# Altium schematic symbol library lib.SchLib: 136 symbols (part 2 of 2)
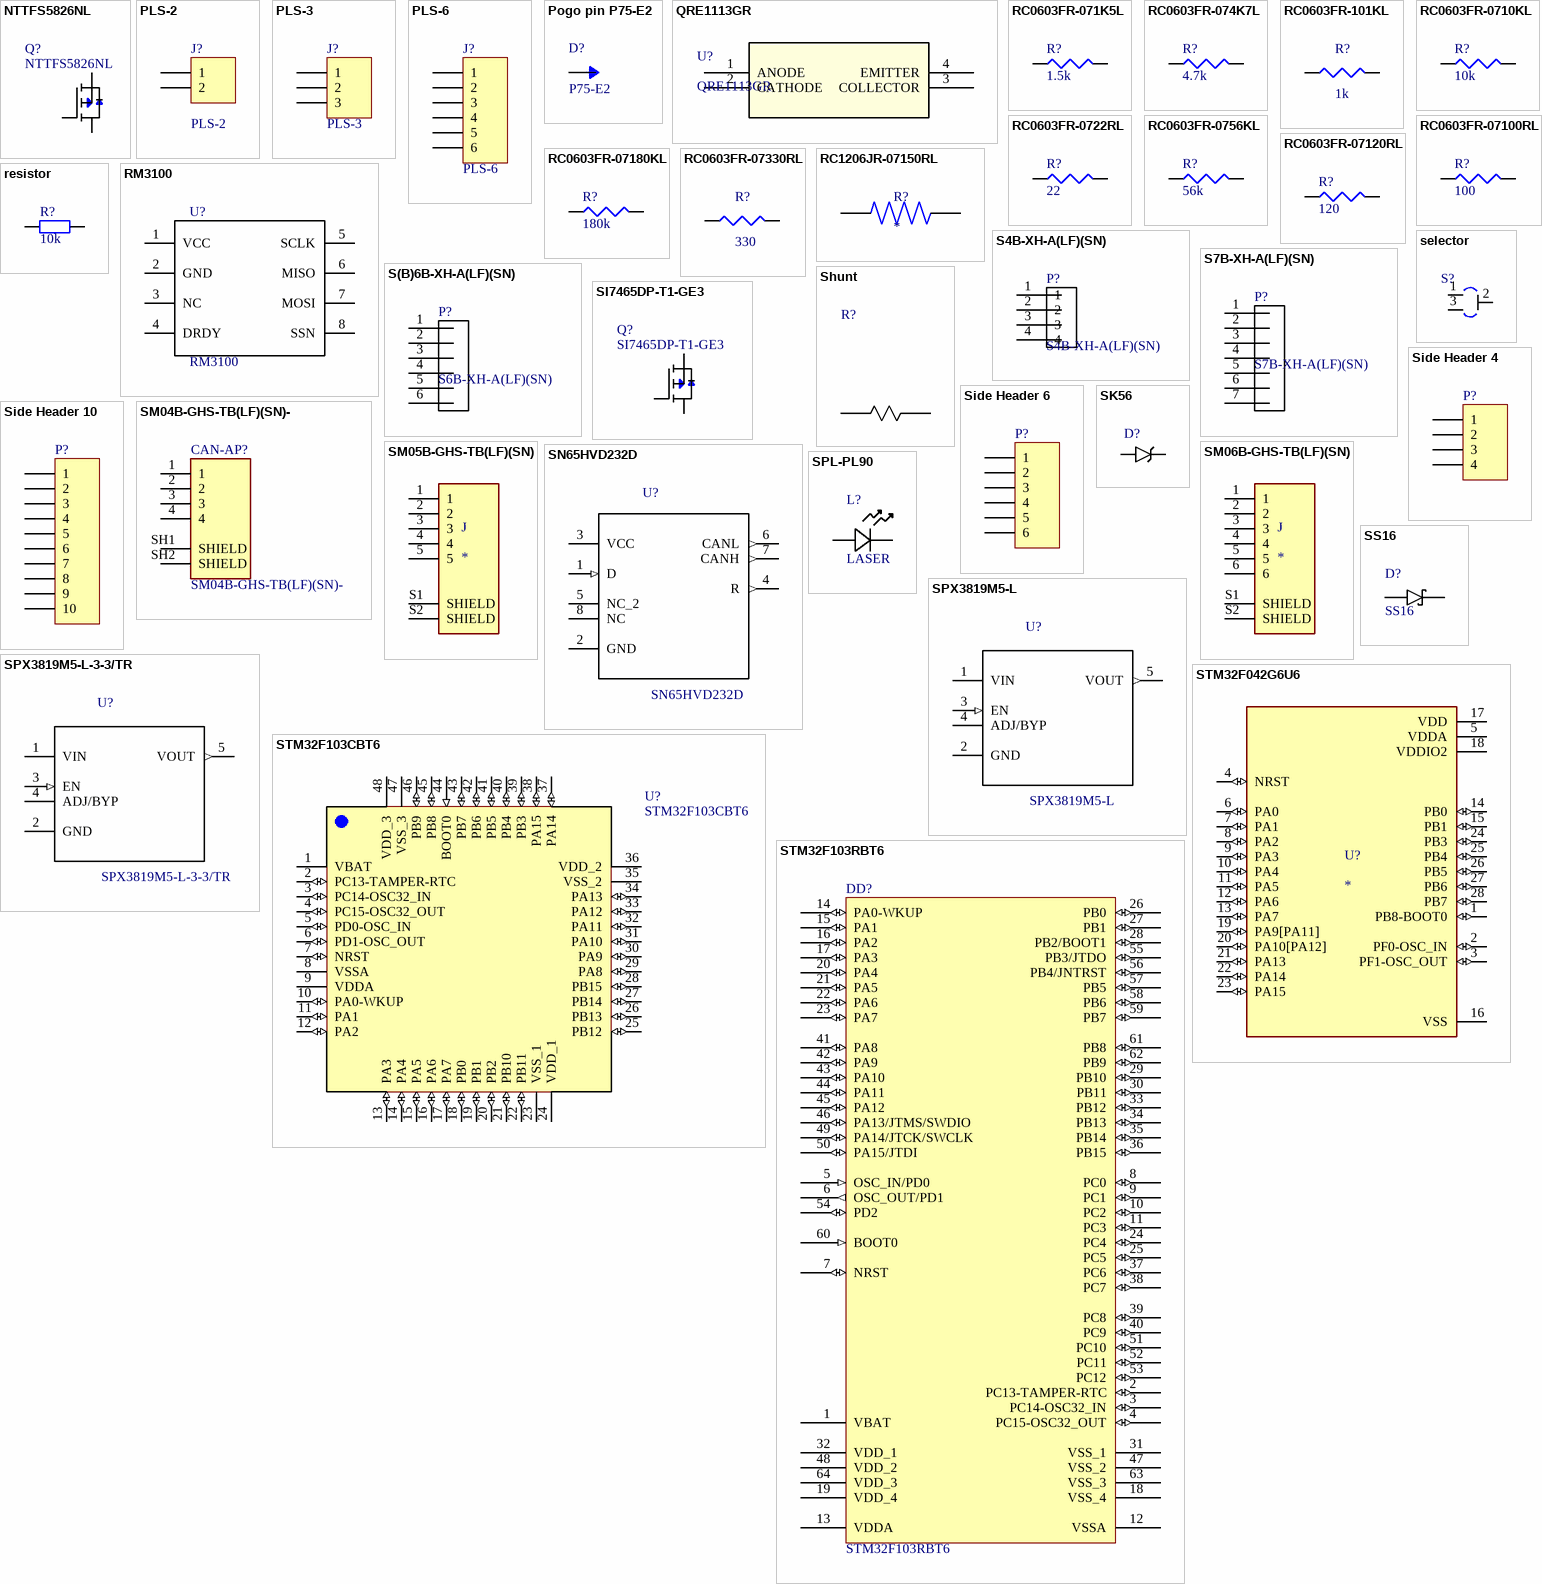
[diagram p5: symbols NTTFS5826NL to STM32F103RBT6]

## SM06B-GHS-TB(LF)(SN)
designator J
Connector Header Surface Mount, Right Angle 6 position 0.049" (1.25mm); MP: SM06B-GHS-TB_LF__SN_; MF: JST Sales; Value: *; Package: None; Price: None; Availability: Unavailable; SnapEDA_Link: https://www.snapeda.com/parts/SM06B-GHS-TB%28LF%29%28SN%29/JST%20Sales%20America%20Inc./view-part/817690/?ref=snap; HelpURL: http://www.farnell.com/datasheets/2082975.pdf; System: Connector; ChipDip_Link: https://www.chipdip.ru/product1/8002005407
footprint JST_SM06B-GHS-TB(LF)(SN)
pins: 1, 2, 3, 4, 5, 6, S1 SHIELD, S2 SHIELD

## SN65HVD232D
designator U?
Integrated circuit: interface; CAN transceiver; Channels: 1; SO8; MF: Texas Instruments; Availability: Unavailable; Package: SOIC-8 Texas Instruments; Price: None; SnapEDA_Link: https://www.snapeda.com/parts/SN65HVD232D/Texas%20Instruments/view-part/?ref=snap; MP: SN65HVD232D; Value: *
footprint *SOIC127P600X175-8N
pins: 1 D (in), 2 GND, 3 VCC (power), 4 R (out), 5 NC_2, 6 CANL (out), 7 CANH (out), 8 NC

## SPL-PL90
designator L?, comment LASER
5mm Laser beam transmitter; Designer: EhsanShaghaei; ChipDip_Link: https://www.chipdip.ru/product0/8001775090
footprint SPL-PL90
pins: 1, 2

## SPX3819M5-L
designator U?
Low Dropout Voltage Regulator, Adjustable 0.5A, В±1%, 2.5 to 16 Vin, 5-Pin SOT-23; MF: MaxLinear, Inc.; MP: SPX3819M5-L; Price: None; Availability: Unavailable; Package: SOT-23-5 Exar; SnapEDA_Link: https://www.snapeda.com/parts/SPX3819M5-L/MaxLinear%2C%20Inc./view-part/?ref=snap; Value: *
footprint *SOT95P280X145-5N
pins: 1 VIN (power), 2 GND, 3 EN (in), 4 ADJ/BYP, 5 VOUT (out)

## SPX3819M5-L-3-3/TR
designator U?
Low Dropout Voltage Regulator, Adjustable 0.5A, В±1%, 2.5 to 16 Vin, 5-Pin SOT-23; MF: MaxLinear, Inc.; Value: 3V3; MP: SPX3819M5-L-3-3/TR; Package: SOT-23-5 Exar; SnapEDA_Link: https://www.snapeda.com/parts/SPX3819M5-L/MaxLinear%2C%20Inc./view-part/?ref=snap; Type: SMD; ChipDip_Link: https://www.chipdip.ru/product1/8003455237; HelpURL: http://www.farnell.com/datasheets/2614478.pdf
footprint *SOT95P280X145-5N
pins: 1 VIN (power), 2 GND, 3 EN (in), 4 ADJ/BYP, 5 VOUT (out)

## SS16
designator D?
Diode Schottky 60V 1A Surface Mount SMA; Type: SMD; SnapEDA_Link: https://www.snapeda.com/parts/SS16/ON%20Semiconductor/view-part/?ref=search&t=ss16; Value: *; ChipDip_Link: https://www.chipdip.ru/product/ss16; MP: SS16; Package: SMA-2
footprint *DIOM5227X250N_SS16(Primary)
pins: A, C K

## STM32F042G6U6
designator U?
ARMÂ® CortexÂ®-M0 STM32F0 Microcontroller IC 32-Bit 48MHz 32KB _32K x 8_ FLASH 28-UFQFPN _4x4_; MP: STM32F042G6U6; MF: STMicroelectronics; designer: Ehsan Shaghaei; Package: UFQFN-28 STMicroelectronics; Availability: Unavailable; SnapEDA_Link: https://www.snapeda.com/parts/STM32F042G6U6/STMicroelectronics/view-part/225452/?ref=snap; Price: None; Value: *; datasheet: https://static.chipdip.ru/lib/914/DOC005914773.pdf; chipdip_link: https://www.chipdip.ru/product/stm32f042g6u6
footprint STM32F042G6U6_UFQFPN4x4
pins: 1 PB8-BOOT0 (io), 2 PF0-OSC_IN (io), 3 PF1-OSC_OUT (io), 4 NRST (io), 5 VDDA (power), 6 PA0 (io), 7 PA1 (io), 8 PA2 (io), 9 PA3 (io), 10 PA4 (io), 11 PA5 (io), 12 PA6 (io), 13 PA7 (io), 14 PB0 (io), 15 PB1 (io), 16 VSS (power), 17 VDD (power), 18 VDDIO2 (power), 19 PA9[PA11] (io), 20 PA10[PA12] (io), 21 PA13 (io), 22 PA14 (io), 23 PA15 (io), 24 PB3 (io), 25 PB4 (io), 26 PB5 (io), 27 PB6 (io), 28 PB7 (io)

## STM32F103CBT6
designator U?
ARM® Cortex®-M3 STM32F1 Microcontroller IC 32-Bit 72MHz 128KB (128K x 8) FLASH; MF: STM; ChipDip_Link: https://www.chipdip.ru/product/stm32f103cbt6; HelpURL: https://static.chipdip.ru/lib/235/DOC000235733.pdf; MP: STM32F103CBT6; Package: LQFP-48; SnapEDA_Link: https://www.snapeda.com/parts/STM32F103CBT6/STMicroelectronics/view-part/?ref=search&t=STM32F103CBT6; Type: SMD
footprint STM-LQFP48_N (QFP, 48-Leads, Body 7x7mm, Pitch 0.5mm, IPC Medium Density)
footprint STM-LQFP48_L (QFP, 48-Leads, Body 7x7mm, Pitch 0.5mm, IPC High Density)
footprint STM-LQFP48_M (QFP, 48-Leads, Body 7x7mm, Pitch 0.5mm, IPC Low Density)
pins: 1 VBAT (power), 2 PC13-TAMPER-RTC (io) "PC13-TAMPER-RTC/PC13/TAMPER-RTC", 3 PC14-OSC32_IN (io) "PC14-OSC32_IN/PC14/OSC32_IN", 4 PC15-OSC32_OUT (io) "PC15-OSC32_OUT/PC15/OSC32_OUT", 5 PD0-OSC_IN (io) "PD0/OSC_IN", 6 PD1-OSC_OUT (io) "PD1/OSC_OUT", 7 NRST (io), 8 VSSA (power), 9 VDDA (power), 10 PA0-WKUP (io) "PA0-WKUP/PA0/WKUP/USART2_CTS/ADC12_IN0/TIM2_CH1_ETR", 11 PA1 (io) "PA1/USART2_RTS/ADC12_IN1/TIM2_CH2", 12 PA2 (io) "PA2/USART2_TX/ADC12_IN2/TIM2_CH3", 13 PA3 (io) "PA3/USART2_RX/ADC12_IN3/TIM2_CH4", 14 PA4 (io) "PA4/SPI1_NSS/USART2_CK/ADC12_IN4", 15 PA5 (io) "PA5/SPI1_SCK/ADC12_IN5", 16 PA6 (io) "PA6/SPI1_MISO/ADC12_IN6/TIM3_CH1/TIM1_BKIN", 17 PA7 (io) "PA7/SPI1_MOSI/ADC12_IN7/TIM3_CH2/TIM1_CH1N", 18 PB0 (io) "PB0/ADC12_IN8/TIM3_CH3/TIM1_CH2N", 19 PB1 (io) "PB1/ADC12_IN9/TIM3_CH4/TIM1_CH3N", 20 PB2 (io) "PB2/BOOT1", 21 PB10 (io) "PB10/I2C2_SCL/USART3_TX/TIM2_CH3", 22 PB11 (io) "PB11/I2C2_SDA/USART3_RX/TIM2_CH4", 23 VSS_1 (power), 24 VDD_1 (power), 25 PB12 (io) "PB12/SPI2_NSS/I2C2_SMBAl/USART3_CK/TIM1_BKIN", 26 PB13 (io) "PB13/SPI2_SCK/USART3_CTS/TIM1_CH1N", 27 PB14 (io) "PB14/SPI2_MISO/USART3_RTS/TIM1_CH2N", 28 PB15 (io) "PB15/SPI2_MOSI/TIM1_CH3N", 29 PA8 (io) "PA8/USART1_CK/TIM1_CH1/MCO", 30 PA9 (io) "PA9/USART1_TX/TIM1_CH2", 31 PA10 (io) "PA10/USART1_RX/TIM1_CH3", 32 PA11 (io) "PA11/USART1_CTS/CANRX/USBDM/TIM1_CH4", 33 PA12 (io) "PA12/USART1_RTS/CANTX/USBDP/TIM1_ETR", 34 PA13 (io) "PA13/JTMS/SWDIO", 35 VSS_2 (power), 36 VDD_2 (power), 37 PA14 (io) "PA14/JTCK/SWCLK", 38 PA15 (io) "PA15/JTDI/TIM2_CH1_ETR/SPI1_NSS", 39 PB3 (io) "PB3/JTDO/TIM2_CH2/TRACESWO/SPI1_SCK", 40 PB4 (io) "PB4/NJTRST/TIM3_CH1/SPI1_MISO", 41 PB5 (io) "PB5/I2C1_SMBAI/TIM3_CH2/SPI1_MOSI", 42 PB6 (io) "PB6/I2C1_SCL/TIM4_CH1/USART1_TX", 43 PB7 (io) "PB7/I2C1_SDA/TIM4_CH2/USART1_RX", 44 BOOT0 (in), 45 PB8 (io) "PB8/TIM4_CH3/I2C1_SCL/CANRX", 46 PB9 (io) "PB9/TIM4_CH4/I2C1_SDA/CANTX", 47 VSS_3 (power), 48 VDD_3 (power)

## STM32F103RBT6
designator DD?
STM32 ARM-based 32-bit MCU with 128 Kbytes Flash, 64-pin LQFP, Industrial Temperature; Published: 30-May-2008; DatasheetVersion: rev6, Mar-2008; PackageVersion: Mar-2008; PackageReference: LQFP64; Publisher: Altium Limited; PackageDescription: 64-Pin Low-Profile Quad Flat Pack, 10 x 10 mm Body, 0.5 mm Pitch (LQFP64); ComponentLink1Description: Manufacturer Link; ComponentLink1URL: www.st.com/stm32; ComponentLink2Description: Datasheet; ComponentLink2URL: http://www.st.com/stonline/products/literature/ds/13587.pdf; ChipDip_Link: https://www.chipdip.ru/product/stm32f103rbt6; HelpURL: http://www.farnell.com/datasheets/1963088.pdf
footprint LQFP64_N (Thin QFP, 64-Leads, Body 10x10mm, Pitch 0.5mm, IPC Medium Density)
footprint LQFP64_L (Thin QFP, 64-Leads, Body 10x10mm, Pitch 0.5mm, IPC High Density)
footprint LQFP64_M (Thin QFP, 64-Leads, Body 10x10mm, Pitch 0.5mm, IPC Low Density)
pins: 1 VBAT (power), 2 PC13-TAMPER-RTC (io), 3 PC14-OSC32_IN (io), 4 PC15-OSC32_OUT (io), 5 OSC_IN/PD0 (in), 6 OSC_OUT/PD1 (out), 7 NRST (io), 8 PC0 (io), 9 PC1 (io), 10 PC2 (io), 11 PC3 (io), 12 VSSA (power), 13 VDDA (power), 14 PA0-WKUP (io), 15 PA1 (io), 16 PA2 (io), 17 PA3 (io), 18 VSS_4 (power), 19 VDD_4 (power), 20 PA4 (io), 21 PA5 (io), 22 PA6 (io), 23 PA7 (io), 24 PC4 (io), 25 PC5 (io), 26 PB0 (io), 27 PB1 (io), 28 PB2/BOOT1 (io), 29 PB10 (io), 30 PB11 (io), 31 VSS_1 (power), 32 VDD_1 (power), 33 PB12 (io), 34 PB13 (io), 35 PB14 (io), 36 PB15 (io), 37 PC6 (io), 38 PC7 (io), 39 PC8 (io), 40 PC9 (io), 41 PA8 (io), 42 PA9 (io), 43 PA10 (io), 44 PA11 (io), 45 PA12 (io), 46 PA13/JTMS/SWDIO (io), 47 VSS_2 (power), 48 VDD_2 (power), 49 PA14/JTCK/SWCLK (io), 50 PA15/JTDI (io), 51 PC10 (io), 52 PC11 (io), 53 PC12 (io), 54 PD2 (io), 55 PB3/JTDO (io), 56 PB4/JNTRST (io), 57 PB5 (io), 58 PB6 (io), 59 PB7 (io), 60 BOOT0 (in), 61 PB8 (io), 62 PB9 (io), 63 VSS_3 (power), 64 VDD_3 (power)

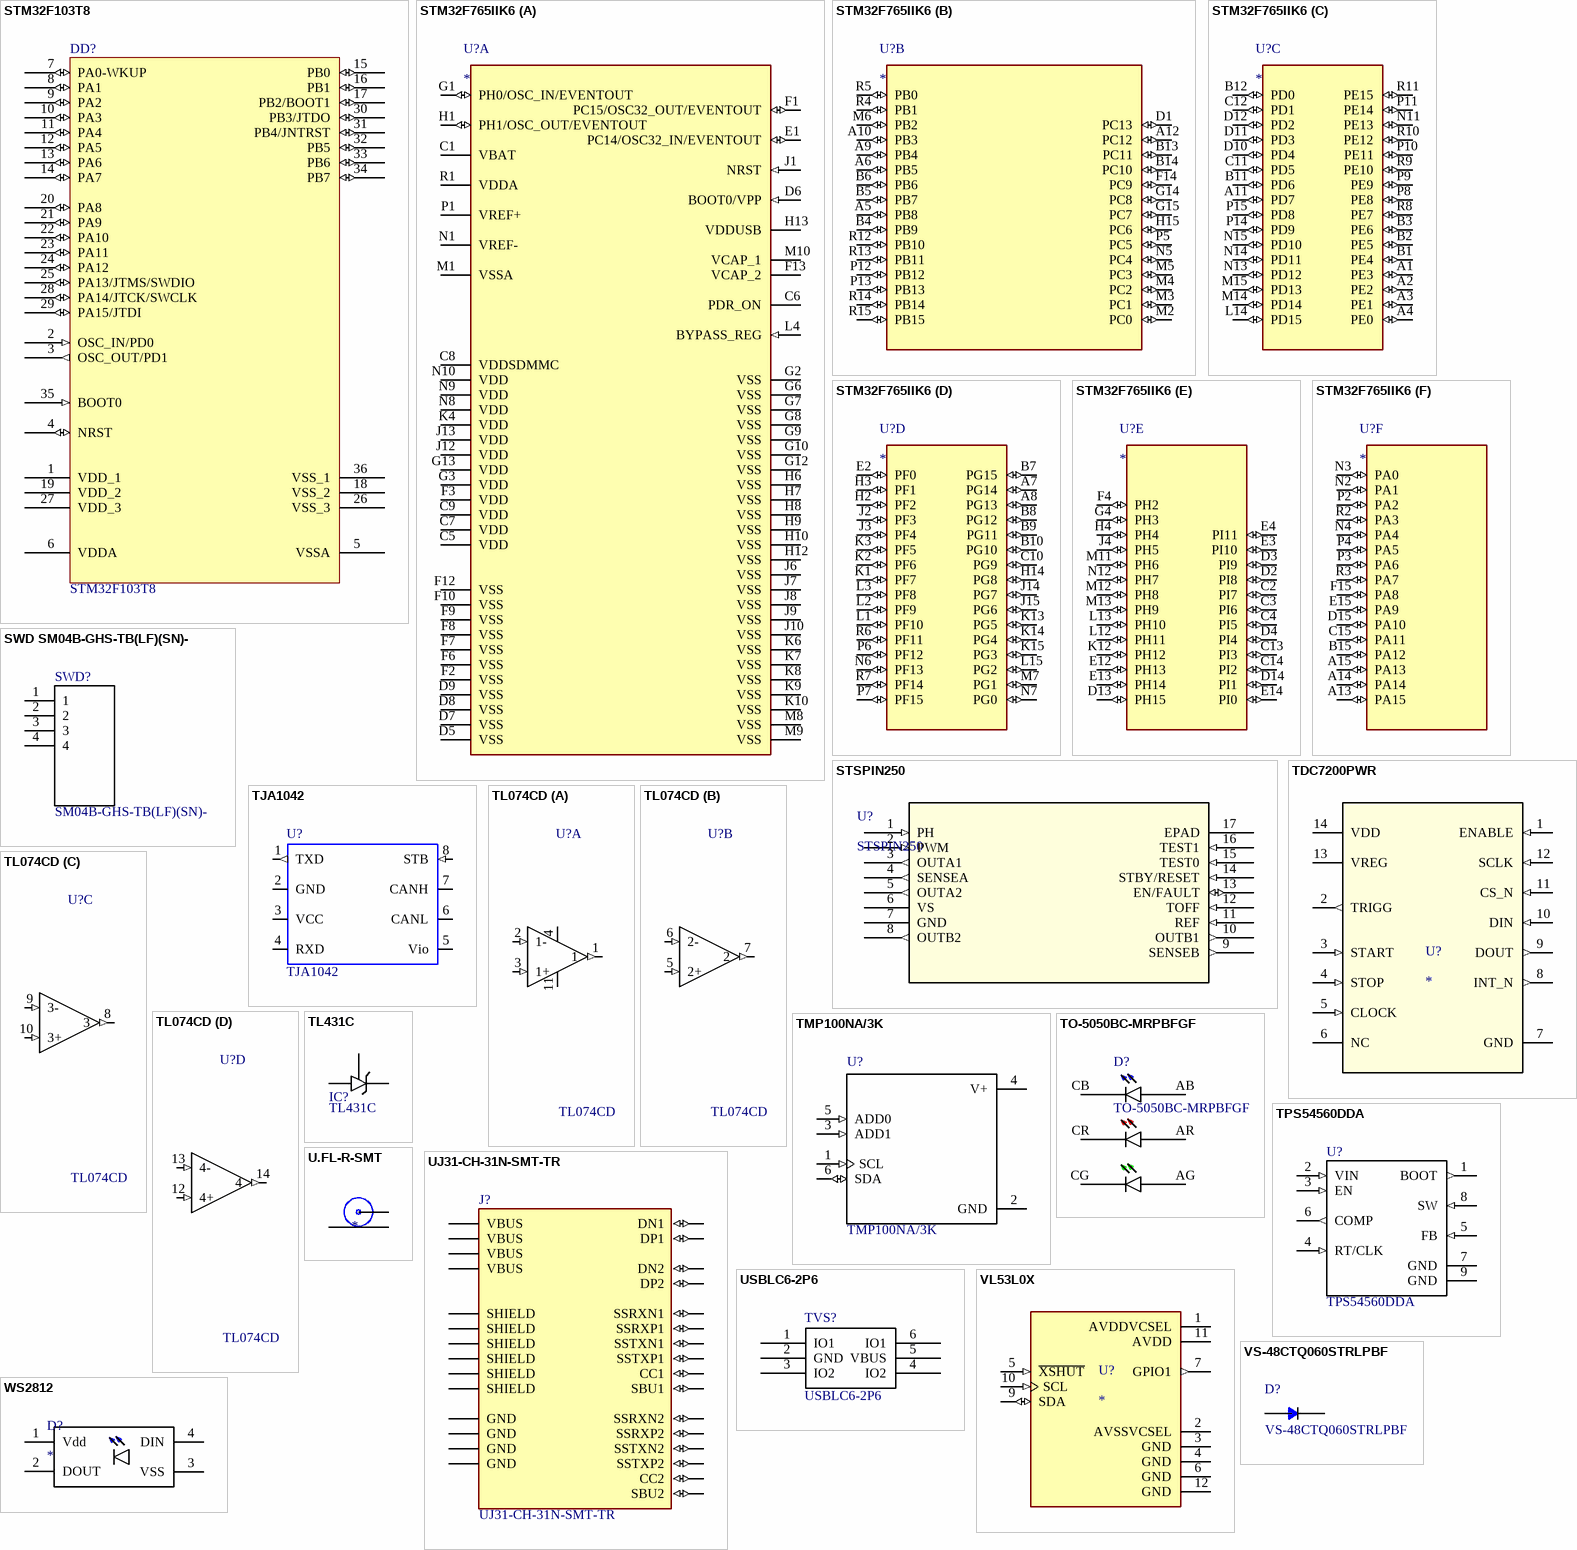
[diagram p3: symbols STM32F103T8 to WS2812]

## STM32F103T8
designator DD?
STM32F103T8U6, Микроконтроллер 32BIT ARM 64K FLASH [VFQFPN-36]; MF: STM; ChipDip_Link: https://www.chipdip.ru/product/stm32f103t8u6-2; HelpURL: http://www.st.com/stonline/products/literature/ds/13587.pdf; MP: STM32F103T8U6; Package: VFQFPN-36; SnapEDA_Link: https://www.snapeda.com/parts/STM32F103T8U6TR/STMicroelectronics/view-part/?ref=search&t=STM32F103T8U6; Type: SMD
footprint *QFN50P600X600X100-37N
pins: 1 VDD_1 (power), 2 OSC_IN/PD0 (in), 3 OSC_OUT/PD1 (out), 4 NRST (io), 5 VSSA (power), 6 VDDA (power), 7 PA0-WKUP (io), 8 PA1 (io), 9 PA2 (io), 10 PA3 (io), 11 PA4 (io), 12 PA5 (io), 13 PA6 (io), 14 PA7 (io), 15 PB0 (io), 16 PB1 (io), 17 PB2/BOOT1 (io), 18 VSS_2 (power), 19 VDD_2 (power), 20 PA8 (io), 21 PA9 (io), 22 PA10 (io), 23 PA11 (io), 24 PA12 (io), 25 PA13/JTMS/SWDIO (io), 26 VSS_3 (power), 27 VDD_3 (power), 28 PA14/JTCK/SWCLK (io), 29 PA15/JTDI (io), 30 PB3/JTDO (io), 31 PB4/JNTRST (io), 32 PB5 (io), 33 PB6 (io), 34 PB7 (io), 35 BOOT0 (in), 36 VSS_1 (power)

## STM32F765IIK6
designator U?
ARM® Cortex®-M7 STM32F7 Microcontroller IC 32-Bit 216MHz 2MB (2M x 8) FLASH 176+25UFBGA (10x10); MP: STM32F765IIK6; MF: STMicroelectronics; Package: UFBGA-201 STMicroelectronics; Digi-Key_Purchase_URL: https://www.digikey.com/product-detail/en/stmicroelectronics/STM32F765IIK6/497-16626-ND/6137837?utm_source=snapeda&utm_medium=aggregator&utm_campaign=symbol; Value: *; Digi-Key_Part_Number: 497-16626-ND; SnapEDA_Link: https://www.snapeda.com/parts/STM32F765IIK6/STMicroelectronics/view-part/659662/?ref=snap; ChipDip_Link: https://www.chipdip.ru/product/stm32f765iik6; HelpURL: https://www.st.com/resource/en/datasheet/stm32f765ii.pdf; Type: SMD
footprint BGA201C65P15X15_1000X1000X60N
part A pins: C1 VBAT (power), C5 VDD (power), C6 PDR_ON (power), C7 VDD (power), C8 VDDSDMMC (power), C9 VDD (power), D5 VSS (power), D6 BOOT0/VPP (in), D7 VSS (power), D8 VSS (power), D9 VSS (power), E1 PC14/OSC32_IN/EVENTOUT (io), F1 PC15/OSC32_OUT/EVENTOUT (io), F2 VSS (power), F3 VDD (power), F6 VSS (power), F7 VSS (power), F8 VSS (power), F9 VSS (power), F10 VSS (power), F12 VSS (power), F13 VCAP_2 (power), G1 PH0/OSC_IN/EVENTOUT (io), G2 VSS (power), G3 VDD (power), G6 VSS (power), G7 VSS (power), G8 VSS (power), G9 VSS (power), G10 VSS (power), G12 VSS (power), G13 VDD (power), H1 PH1/OSC_OUT/EVENTOUT (io), H6 VSS (power), H7 VSS (power), H8 VSS (power), H9 VSS (power), H10 VSS (power), H12 VSS (power), H13 VDDUSB (power), J1 NRST (in), J6 VSS (power), J7 VSS (power), J8 VSS (power), J9 VSS (power), J10 VSS (power), J12 VDD (power), J13 VDD (power), K4 VDD (power), K6 VSS (power), K7 VSS (power), K8 VSS (power), K9 VSS (power), K10 VSS (power), L4 BYPASS_REG (in), M1 VSSA (power), M8 VSS (power), M9 VSS (power), M10 VCAP_1 (power), N1 VREF- (power), N8 VDD (power), N9 VDD (power), N10 VDD (power), P1 VREF+ (power), R1 VDDA (power)
part B pins: A5 PB8 (io), A6 PB5 (io), A9 PB4 (io), A10 PB3 (io), A12 PC12 (io), B4 PB9 (io), B5 PB7 (io), B6 PB6 (io), B13 PC11 (io), B14 PC10 (io), D1 PC13 (io), F14 PC9 (io), G14 PC8 (io), G15 PC7 (io), H15 PC6 (io), M2 PC0 (io), M3 PC1 (io), M4 PC2 (io), M5 PC3 (io), M6 PB2 (io), N5 PC4 (io), P5 PC5 (io), P12 PB12 (io), P13 PB13 (io), R4 PB1 (io), R5 PB0 (io), R12 PB10 (io), R13 PB11 (io), R14 PB14 (io), R15 PB15 (io)
part C pins: A1 PE3 (io), A2 PE2 (io), A3 PE1 (io), A4 PE0 (io), A11 PD7 (io), B1 PE4 (io), B2 PE5 (io), B3 PE6 (io), B11 PD6 (io), B12 PD0 (io), C11 PD5 (io), C12 PD1 (io), D10 PD4 (io), D11 PD3 (io), D12 PD2 (io), L14 PD15 (io), M14 PD14 (io), M15 PD13 (io), N11 PE13 (io), N13 PD12 (io), N14 PD11 (io), N15 PD10 (io), P8 PE8 (io), P9 PE9 (io), P10 PE11 (io), P11 PE14 (io), P14 PD9 (io), P15 PD8 (io), R8 PE7 (io), R9 PE10 (io), R10 PE12 (io), R11 PE15 (io)
part D pins: A7 PG14 (io), A8 PG13 (io), B7 PG15 (io), B8 PG12 (io), B9 PG11 (io), B10 PG10 (io), C10 PG9 (io), E2 PF0 (io), H2 PF2 (io), H3 PF1 (io), H14 PG8 (io), J2 PF3 (io), J3 PF4 (io), J14 PG7 (io), J15 PG6 (io), K1 PF7 (io), K2 PF6 (io), K3 PF5 (io), K13 PG5 (io), K14 PG4 (io), K15 PG3 (io), L1 PF10 (io), L2 PF9 (io), L3 PF8 (io), L15 PG2 (io), M7 PG1 (io), N6 PF13 (io), N7 PG0 (io), P6 PF12 (io), P7 PF15 (io), R6 PF11 (io), R7 PF14 (io)
part E pins: C2 PI7 (io), C3 PI6 (io), C4 PI5 (io), C13 PI3 (io), C14 PI2 (io), D2 PI8 (io), D3 PI9 (io), D4 PI4 (io), D13 PH15 (io), D14 PI1 (io), E3 PI10 (io), E4 PI11 (io), E12 PH13 (io), E13 PH14 (io), E14 PI0 (io), F4 PH2 (io), G4 PH3 (io), H4 PH4 (io), J4 PH5 (io), K12 PH12 (io), L12 PH11 (io), L13 PH10 (io), M11 PH6 (io), M12 PH8 (io), M13 PH9 (io), N12 PH7 (io)
part F pins: A13 PA15 (io), A14 PA14 (io), A15 PA13 (io), B15 PA12 (io), C15 PA11 (io), D15 PA10 (io), E15 PA9 (io), F15 PA8 (io), N2 PA1 (io), N3 PA0 (io), N4 PA4 (io), P2 PA2 (io), P3 PA6 (io), P4 PA5 (io), R2 PA3 (io), R3 PA7 (io)

## STSPIN250
designator U?
No Description Available; Manufacturer_Part_Number: STSPIN220; Vendor: STMicroelectronics; Built_By: Ehsan Shaghaei; SourceLibrary: Update_to_database_2020-12-04; Copyright: Copyright (C) 2018 Accelerated Designs. All rights reserved; RefDes: RefDes; Type: DEV
footprint VFQFPN-16_STM
footprint VFQFPN-16
pins: 1 PH (in), 2 PWM (in), 3 OUTA1 (out), 4 SENSEA (out), 5 OUTA2 (out), 6 VS (power), 7 GND (power), 8 OUTB2 (out), 9 SENSEB (out), 10 OUTB1 (out), 11 REF (in), 12 TOFF (in), 13 EN/FAULT (io), 14 STBY/RESET (in), 15 TEST0 (in), 16 TEST1 (in), 17 EPAD

## SWD SM04B-GHS-TB(LF)(SN)-
designator SWD?, comment SM04B-GHS-TB(LF)(SN)-
Conn Shrouded Header HDR 4 POS 1.25mm Solder ST SMD Reel; MF: JST Sales; Instructions: Do not install; System: Connector; SnapEDA_Link: https://www.snapeda.com/parts/BM04B-GHS-TBT%28LF%29%28SN%29%28N%29/JST%20Sales%20America%20Inc./view-part/?ref=snap; MP: SM04B-GHS-TB(LF)(SN); Package: None; Value: *; Type: SMD
footprint JST_BM04B-GHS-holes
footprint JST_4Pin-Trough
footprint JST_PAD
pins: 1, 2, 3, 4

## TDC7200PWR
designator U?
Designer: Ehsan Shaghaei; ChipDip_Link: https://www.chipdip.ru/product1/8002200734
footprint PW0014A_L
pins: 1 ENABLE (in), 2 TRIGG (out), 3 START (in), 4 STOP (in), 5 CLOCK (in), 6 NC, 7 GND (power), 8 INT_N (out), 9 DOUT (out), 10 DIN (in), 11 CS_N (in), 12 SCLK (in), 13 VREG (power), 14 VDD (power)

## TJA1042
designator U?
1/1 Transceiver Half CANbus 8-SO; MF: NXP USA; SnapEDA_Link: https://www.snapeda.com/parts/TJA1042/NXP%20USA%20Inc./view-part/900919/?ref=snap; Value: *; MP: TJA1042; Package: VDFN-8 NXP USA; ChipDip_Link: https://www.chipdip.ru/product1/8002840332; HelpURL: https://static.chipdip.ru/lib/583/DOC001583059.pdf; Type: SMD
footprint SOT782-1
pins: 1 TXD (out), 2 GND (power), 3 VCC (power), 4 RXD (io), 5 Vio (power), 6 CANL (io), 7 CANH (io), 8 STB (in)

## TL074CD
designator U?
J-FET Amplifier 4 Circuit 14-SO; MF: STMicroelectronics; Price: None; Package: SOIC-14 STMicroelectronics; Availability: Unavailable; SnapEDA_Link: https://www.snapeda.com/parts/TL074CD/STMicroelectronics/view-part/270103/?ref=snap; MP: TL074CD; Value: *
footprint *SOIC127P600X175-14N
part A pins: 1 (out), 2 1- (in), 3 1+ (in), 4 VCC+ (power), 11 VCC- (power)
part B pins: 5 2+ (in), 6 2- (in), 7 2 (out)
part C pins: 8 3 (out), 9 3- (in), 10 3+ (in)
part D pins: 12 4+ (in), 13 4- (in), 14 4 (out)

## TL431C
designator IC?
MF: HTC Korea; SnapEDA_Link: https://www.snapeda.com/parts/TL431C/HTC%20Korea/view-part/?ref=snap; Price: None; Package: TO-236-3 HTC Korea; Availability: Unavailable; MP: TL431C; Value: *
footprint *SOT23-3
pins: 1 K, 2 REF, 3 A

## TMP100NA/3K
designator U?
Temperature Sensor Digital, Local -55В°C ~ 125В°C 11 b SOT-23-6; MF: Texas Instruments; Package: SOT-23 Texas Instruments; SnapEDA_Link: https://www.snapeda.com/parts/TMP100NA/3K/Texas%20Instruments/view-part/110634/?ref=snap; Price: None; MP: TMP100NA/3K; Availability: Unavailable; Value: *
footprint *SOT95P280X145-6N
pins: 1 SCL (in), 2 GND (power), 3 ADD1 (in), 4 V+ (power), 5 ADD0 (in), 6 SDA (io)

## TO-5050BC-MRPBFGF
designator D?
TO-5050BC-MRPBFGF, Светодиод SMD 5050 RGB 120°; Package: SMD 5050; Availability: Unavailable; SnapEDA_Link: https://www.snapeda.com/parts/LL-R5050BC-B4-1B/Lucky%20Light/view-part/?ref=search&t=TO-5050BC#download-modal; Price: None; Value: RGB; ChipDip_Link: https://www.chipdip.ru/product/to-5050bc-mrpbfgf; ComponentLink1Description: Datasheet; ComponentLink1URL: https://static.chipdip.ru/lib/736/DOC002736076.pdf; HelpURL: https://static.chipdip.ru/lib/736/DOC002736076.pdf; ComponentLink2Description: Supply; ComponentLink2URL: https://www.chipdip.ru/product/to-5050bc-mrpbfgf
footprint *PLCC-6-LED
pins: AB, AG, AR, CB, CG, CR

## TPS54560DDA
designator U?
60 V Input, 5 A, Step-Down DC-DC Converter with Eco-Mode 8-SO PowerPAD -40 to 125; MF: Texas Instruments; SnapEDA_Link: https://www.snapeda.com/parts/TPS54560DDA/Texas%20Instruments/view-part/?ref=snap; MP: TPS54560DDA; Availability: Unavailable; Price: None; Package: PowerSOIC-8 Texas Instruments; Value: *
footprint *SOIC127P600X170-9N
pins: 1 BOOT (out), 2 VIN (in), 3 EN (in), 4 RT/CLK (in), 5 FB (in), 6 COMP (out), 7 GND (power), 8 SW (in), 9 GND (power)

## U.FL-R-SMT
designator ?
U.FL _UMCC_ Connector Receptacle, Male Pin 50Ohm Surface Mount Solder; MF: Hirose Electric; MP: U.FL-R-SMT; Package: None; Value: *; Price: None; SnapEDA_Link: https://www.snapeda.com/parts/U.FL-R-SMT/Hirose%20Electric%20Co%20Ltd/view-part/470271/?ref=snap; Availability: Unavailable; ChipDip_Link: https://www.chipdip.ru/product1/8001801560; HelpURL: http://www.farnell.com/datasheets/2691132.pdf
footprint U.FL-R-SMT (Footprint not found)
pins: P$1, P$2 (power), P$3 (power)

## UJ31-CH-31N-SMT-TR
designator J?
Type C, USB 3.1 Gen 2, 5 A, Right Angle, Surface Mount _SMT_, USB Receptacle; MF: CUI Devices; Value: *; SnapEDA_Link: https://www.snapeda.com/parts/UJ31-CH-31N-SMT-TR/CUI%20Devices/view-part/2776725/?ref=snap; Package: None; MP: UJ31-CH-31N-SMT-TR; ChipDip_Link: https://www.chipdip.ru/product1/8002862225; HelpURL: https://www.chipdip.ru/product1/8002862225; Type: SMT
footprint CUI_UJ31-CH-31N-SMT-TR
pins: A1 GND (power), A2 SSTXP1 (io), A3 SSTXN1 (io), A4 VBUS (power), A5 CC1 (io), A6 DP1 (io), A7 DN1 (io), A8 SBU1 (io), A9 VBUS (power), A10 SSRXN2 (io), A11 SSRXP2 (io), A12 GND (power), B1 GND (power), B2 SSTXP2 (io), B3 SSTXN2 (io), B4 VBUS (power), B5 CC2 (io), B6 DP2 (io), B7 DN2 (io), B8 SBU2 (io), B9 VBUS (power), B10 SSRXN1 (io), B11 SSRXP1 (io), B12 GND (power), SH1 SHIELD (power), SH2 SHIELD (power), SH3 SHIELD (power), SH4 SHIELD (power), SH5 SHIELD (power), SH6 SHIELD (power)

## USBLC6-2P6
designator TVS?
17V Clamp 5A (8/20µs) Ipp Tvs Diode Surface Mount SOT-666; MF: STM; ChipDip_Link: https://www.chipdip.ru/product/usblc6-2p6-2; HelpURL: https://static.chipdip.ru/lib/093/DOC001093117.pdf; MP: USBLC6-2P6; Package: SOT-666; SnapEDA_Link: https://www.snapeda.com/parts/USBLC6-2P6/STMicroelectronics/view-part/?ref=search&t=USBLC6-2P6; Type: SMD
footprint SOT23127P600-8N
pins: 1 IO1, 2 GND, 3 IO2, 4 IO2, 5 VBUS, 6 IO1

## VL53L0X
designator U?
VL53L0X - Light, 3D Time-of-Flight _ToF_ Sensor Evaluation Board; MF: STMicroelectronics; designer: Ehsan Shaghaei; MP: VL53L0X; Package: None; Price: None; Availability: Unavailable; SnapEDA_Link: https://www.snapeda.com/parts/VL53L0X/STMicroelectronics/view-part/473967/?ref=snap; Value: *; chipdip_link: https://www.chipdip.ru/product/vl53l0cxv0dh-1-stm; datasheet: http://www.farnell.com/datasheets/2291222.pdf
footprint SENSOR_VL53L0X
pins: 1 AVDDVCSEL (power), 2 AVSSVCSEL (power), 3 GND (power), 4 GND (power), 5 ~{XSHUT} (in), 6 GND (power), 7 GPIO1 (out), 9 SDA (io), 10 SCL (in), 11 AVDD (power), 12 GND (power)

## VS-48CTQ060STRLPBF
designator D?
Schottky Diode, 2 x 20A, 60V, D2-PAK; MF: Pericom; MP: B340-13-F; Package: DO-214AB-214 Pericom; Availability: Unavailable; SnapEDA_Link: https://www.snapeda.com/parts/B340-13-F/Pericom/view-part/?ref=snap; Price: None; Value: *
footprint D2-PAK DIODE
pins: A, C

## WS2812
designator D?
Addressable Lighting - 5 LED Discrete Serial _Shift Register_ Red, Green, Blue _RGB_ 5.00mm Dia; MP: WS2812; MF: SparkFun Electronics; Availability: Unavailable; Price: None; Value: *; SnapEDA_Link: https://www.snapeda.com/parts/WS2812/SparkFun%20Electronics/view-part/106391/?ref=snap; Package: SparkFun Electronics; HelpURL: https://static.chipdip.ru/lib/554/DOC001554925.pdf; ChipDip_Link: https://www.chipdip.ru/product/ws2812b
footprint LED_WS2812
pins: 1 Vdd (power), 2 DOUT (power), 3 VSS (power), 4 DIN (power)

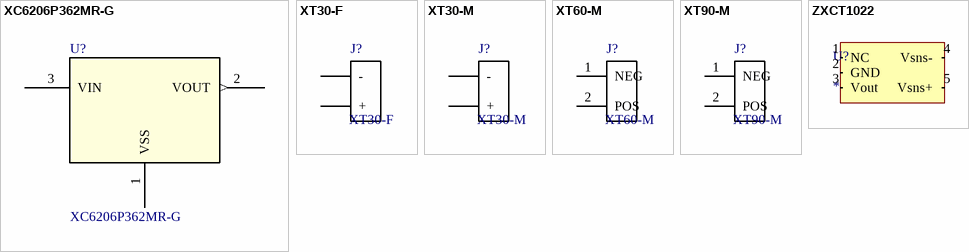
[diagram p4: symbols XC6206P362MR-G to ZXCT1022]

## XC6206P362MR-G
designator U?
Vendor: Torex Semiconductor; Built_By: EMA_UL_Team; SourceLibrary: Torex_2016-07-05_2; Designer: EhsanShaghaei; Manufacturer_Part_Number: XC6206P362MR-G; Copyright: Copyright (C) 2018 Accelerated Designs. All rights reserved; RefDes: RefDes; Type: DEV
footprint SOT-23
pins: 1 VSS, 2 VOUT (out), 3 VIN (power)

## XT30-F
designator J?
MP: XT60-M; MF: AMASS; Package: Package Analog Devices; Availability: Unavailable; SnapEDA_Link: https://www.snapeda.com/parts/XT60-M/AMASS/view-part/?ref=snap; Price: None; Value: *
footprint XT30-F
footprint XT30-F - Side
pins: MINUS -, PLUS +

## XT30-M
designator J?
MP: XT60-M; MF: AMASS; Package: Package Analog Devices; Availability: Unavailable; SnapEDA_Link: https://www.snapeda.com/parts/XT60-M/AMASS/view-part/?ref=snap; Price: None; Value: *
footprint XT30-M
footprint XT30-M side
pins: MINUS -, PLUS +

## XT60-M
designator J?
MF: AMASS; Package: Package Analog Devices; Availability: Unavailable; MP: XT60-M; SnapEDA_Link: https://www.snapeda.com/parts/XT60-M/AMASS/view-part/?ref=snap; Price: None; Value: *
footprint *AMASS_XT60-M
pins: 1 NEG, 2 POS

## XT90-M
designator J?
MP: XT60-M; MF: AMASS; Package: Package Analog Devices; Availability: Unavailable; SnapEDA_Link: https://www.snapeda.com/parts/XT60-M/AMASS/view-part/?ref=snap; Price: None; Value: *
footprint XT90
footprint XT90 SIDE
footprint XT90 VERTICAL
footprint XT90 SIDE INV
pins: 1 NEG, 2 POS

## ZXCT1022
designator U?
HelpURL: https://static.chipdip.ru/lib/465/DOC012465896.pdf; Chipdip_Link: https://www.chipdip.ru/product/zxct1022e5ta-current-sense-monitor-2.5
footprint SOT23-5
pins: 1 NC, 2 GND, 3 Vout, 4 Vsns-, 5 Vsns+